# EAGLE library part 7SEGMINI (library axios_components)
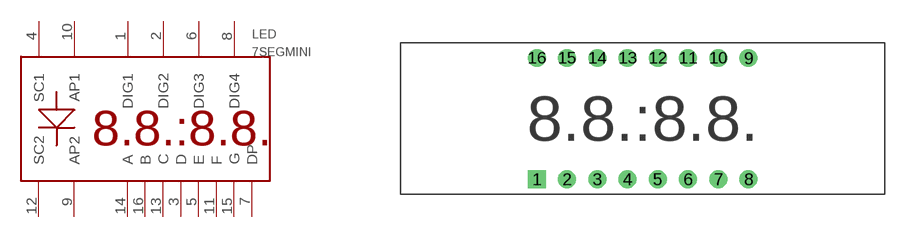
[diagram p1: symbol with the pads of 7SEGMINI; footprint 7SEGMINI]

Designator prefix LED

## 7SEGMINI  [7SEGMINI]
1  DIG1
2  DIG2
3  D
4  SC1
5  E
6  DIG3
7  DP
8  DIG4
9  AP2
10  AP1
11  F
12  SC2
13  C
14  A
15  G
16  B

## Footprint 7SEGMINI (pad centres in mm)
drill 1 square: 1 -8.89,-5.08
drill 1: 2 -6.35,-5.08; 3 -3.81,-5.08; 4 -1.27,-5.08; 5 1.27,-5.08; 6 3.81,-5.08; 7 6.35,-5.08; 8 8.89,-5.08; 9 8.89,5.08; 10 6.35,5.08; 11 3.81,5.08; 12 1.27,5.08; 13 -1.27,5.08; 14 -3.81,5.08; 15 -6.35,5.08; 16 -8.89,5.08